# EAGLE library part ROOT1 (library thinkmaketest)
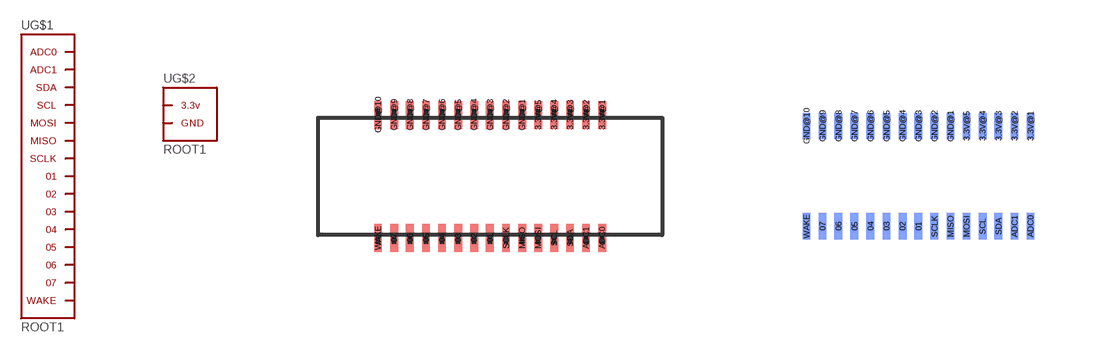
[diagram p1: symbol with the pads of ROOT1.TOP; footprints ROOT1.TOP, ROOT1.BOTTOM]

Designator prefix -; gates G$1=ROOT1.HEADER.ALL G$2=ROOT1.HEADER.PWR

## ROOT1.TOP  [ROOT1.TOP]
01  G$1:01
02  G$1:02
03  G$1:03
3.3V@1  G$2:3.3V
3.3V@2  G$2:3.3V
3.3V@3  G$2:3.3V
3.3V@4  G$2:3.3V
3.3V@5  G$2:3.3V
04  G$1:04
05  G$1:05
06  G$1:06
07  G$1:07
ADC0  G$1:ADC0
ADC1  G$1:ADC1
GND@1  G$2:GND
GND@2  G$2:GND
GND@3  G$2:GND
GND@4  G$2:GND
GND@5  G$2:GND
GND@6  G$2:GND
GND@7  G$2:GND
GND@8  G$2:GND
GND@9  G$2:GND
GND@10  G$2:GND
MISO  G$1:MISO
MOSI  G$1:MOSI
SCL  G$1:SCL
SCLK  G$1:SCLK
SDA  G$1:SDA
WAKE  G$1:WAKE

## ROOT1.BOTTOM  [ROOT1.BOTTOM]
Pads as for ROOT1.TOP

## ROOT1.BOTH  [ROOT1.BOTH]
01  G$1:01
01@1  G$1:01
01@VIA  G$1:01
02  G$1:02
02@1  G$1:02
02@VIA  G$1:02
03  G$1:03
3.3V@1  G$2:3.3V
3.3V@2  G$2:3.3V
3.3V@3  G$2:3.3V
3.3V@4  G$2:3.3V
3.3V@5  G$2:3.3V
3.3V@6  G$2:3.3V
3.3V@7  G$2:3.3V
3.3V@8  G$2:3.3V
3.3V@9  G$2:3.3V
3.3V@10  G$2:3.3V
3.3V@VIA  G$2:3.3V
03@1  G$1:03
03@VIA  G$1:03
04  G$1:04
04@1  G$1:04
04@VIA  G$1:04
05  G$1:05
05@1  G$1:05
05@VIA  G$1:05
06  G$1:06
06@1  G$1:06
06@VIA  G$1:06
07  G$1:07
07@1  G$1:07
07@VIA  G$1:07
ADC0  G$1:ADC0
ADC0@1  G$1:ADC0
ADC0@VIA  G$1:ADC0
ADC1  G$1:ADC1
ADC1@1  G$1:ADC1
ADC1@VIA  G$1:ADC1
GND@1  G$2:GND
GND@2  G$2:GND
GND@3  G$2:GND
GND@4  G$2:GND
GND@5  G$2:GND
GND@6  G$2:GND
GND@7  G$2:GND
GND@8  G$2:GND
GND@9  G$2:GND
GND@10  G$2:GND
GND@11  G$2:GND
GND@12  G$2:GND
GND@13  G$2:GND
GND@14  G$2:GND
GND@15  G$2:GND
GND@16  G$2:GND
GND@17  G$2:GND
GND@18  G$2:GND
GND@19  G$2:GND
GND@20  G$2:GND
GND@VIA  G$2:GND
MISO  G$1:MISO
MISO@1  G$1:MISO
MISO@VIA  G$1:MISO
MOSI  G$1:MOSI
MOSI@1  G$1:MOSI
MOSI@VIA  G$1:MOSI
SCL  G$1:SCL
SCL@1  G$1:SCL
SCL@VIA  G$1:SCL
SCLK  G$1:SCLK
SCLK@1  G$1:SCLK
SCLK@VIA  G$1:SCLK
SDA  G$1:SDA
SDA@1  G$1:SDA
SDA@VIA  G$1:SDA
WAKE  G$1:WAKE
WAKE@1  G$1:WAKE
WAKE@VIA  G$1:WAKE

## Footprint ROOT1.TOP (pad centres in mm)
smd 0.2 x 0.7: 01 12.7,21.32; 02 12.3,21.32; 03 11.9,21.32; 3.3V@1 15.5,24.4; 3.3V@2 15.1,24.4; 3.3V@3 14.7,24.4; 3.3V@4 14.3,24.4; 3.3V@5 13.9,24.4; 04 11.5,21.32; 05 11.1,21.32; 06 10.7,21.32; 07 10.3,21.32; ADC0 15.5,21.32; ADC1 15.1,21.32; GND@1 13.5,24.4; GND@2 13.1,24.4; GND@3 12.7,24.4; GND@4 12.3,24.4; GND@5 11.9,24.4; GND@6 11.5,24.4; GND@7 11.1,24.4; GND@8 10.7,24.4; GND@9 10.3,24.4; GND@10 9.9,24.4; MISO 13.5,21.32; MOSI 13.9,21.32; SCL 14.3,21.32; SCLK 13.1,21.32; SDA 14.7,21.32; WAKE 9.9,21.32

## Footprint ROOT1.BOTTOM (pad centres in mm)
smd 0.2 x 0.66 bottom: 01 12.7,21.605; 02 12.3,21.605; 03 11.9,21.605; 3.3V@1 15.5,24.115; 3.3V@2 15.1,24.115; 3.3V@3 14.7,24.115; 3.3V@4 14.3,24.115; 3.3V@5 13.9,24.115; 04 11.5,21.605; 05 11.1,21.605; 06 10.7,21.605; 07 10.3,21.605; ADC0 15.5,21.605; ADC1 15.1,21.605; GND@1 13.5,24.115; GND@2 13.1,24.115; GND@3 12.7,24.115; GND@4 12.3,24.115; GND@5 11.9,24.115; GND@6 11.5,24.115; GND@7 11.1,24.115; GND@8 10.7,24.115; GND@9 10.3,24.115; GND@10 9.9,24.115; MISO 13.5,21.605; MOSI 13.9,21.605; SCL 14.3,21.605; SCLK 13.1,21.605; SDA 14.7,21.605; WAKE 9.9,21.605

## Footprint ROOT1.BOTH (pad centres in mm)
smd 0.2 x 0.7: 01 12.7,21.32; 02 12.3,21.32; 03 11.9,21.32; 3.3V@1 15.5,24.4; 3.3V@2 15.1,24.4; 3.3V@3 14.7,24.4; 3.3V@4 14.3,24.4; 3.3V@5 13.9,24.4; 04 11.5,21.32; 05 11.1,21.32; 06 10.7,21.32; 07 10.3,21.32; ADC0 15.5,21.32; ADC1 15.1,21.32; GND@1 13.5,24.4; GND@2 13.1,24.4; GND@3 12.7,24.4; GND@4 12.3,24.4; GND@5 11.9,24.4; GND@6 11.5,24.4; GND@7 11.1,24.4; GND@8 10.7,24.4; GND@9 10.3,24.4; GND@10 9.9,24.4; MISO 13.5,21.32; MOSI 13.9,21.32; SCL 14.3,21.32; SCLK 13.1,21.32; SDA 14.7,21.32; WAKE 9.9,21.32
smd 0.2 x 0.66 bottom: 01@1 12.7,21.605; 02@1 12.3,21.605; 3.3V@6 13.9,24.115; 3.3V@7 14.3,24.115; 3.3V@8 14.7,24.115; 3.3V@9 15.1,24.115; 3.3V@10 15.5,24.115; 03@1 11.9,21.605; 04@1 11.5,21.605; 05@1 11.1,21.605; 06@1 10.7,21.605; 07@1 10.3,21.605; ADC0@1 15.5,21.605; ADC1@1 15.1,21.605; GND@11 9.9,24.115; GND@12 10.3,24.115; GND@13 10.7,24.115; GND@14 11.1,24.115; GND@15 11.5,24.115; GND@16 11.9,24.115; GND@17 12.3,24.115; GND@18 12.7,24.115; GND@19 13.1,24.115; GND@20 13.5,24.115; MISO@1 13.5,21.605; MOSI@1 13.9,21.605; SCL@1 14.3,21.605; SCLK@1 13.1,21.605; SDA@1 14.7,21.605; WAKE@1 9.9,21.605
drill 0.33: 01@VIA 12.7,19.05; 02@VIA 12.065,18.415; 3.3V@VIA 16.51,24.13; 03@VIA 11.43,19.05; 04@VIA 10.795,18.415; 05@VIA 10.16,19.05; 06@VIA 9.525,19.685; 07@VIA 8.89,20.32; ADC0@VIA 16.51,21.336; ADC1@VIA 16.51,20.32; GND@VIA 8.89,24.13; MISO@VIA 13.97,19.05; MOSI@VIA 14.605,18.415; SCL@VIA 15.24,19.05; SCLK@VIA 13.335,18.415; SDA@VIA 15.875,19.685; WAKE@VIA 8.89,21.336